# Altium schematic symbol library SN74LVC2G07DCKX.SchLib: 1 symbol
Pins are listed as number, name and electrical type; pins without a type are passive.

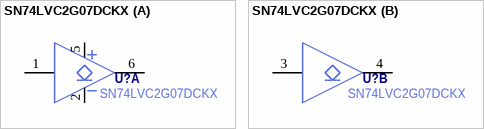
[diagram p0: symbol SN74LVC2G07DCKX]

## SN74LVC2G07DCKX
designator U?
part A pins: 1 NC hidden, 1 A1, 2 GND, 5 VCC, 6 Y1
part B pins: 3 A2, 4 Y2